# EAGLE library part M20-7820946 (library M20-7820946)
Headers & Wire Housings 9 PIN SIL VERTICAL SOCKET TIN Source: Datasheet <https://cdn.harwin.com/pdfs/M20-782.pdf>
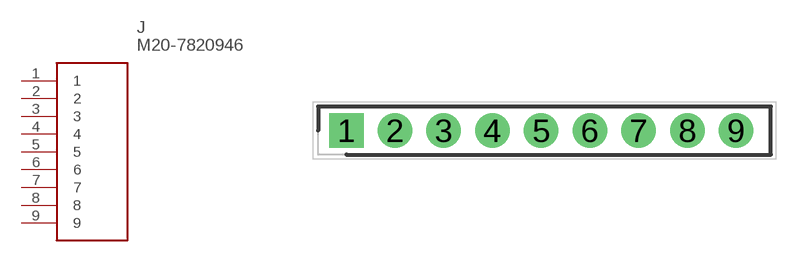
[diagram p0: symbol with the pads of RHDR9W70P0X254_1X9_2326X250X86; footprint RHDR9W70P0X254_1X9_2326X250X86]

Designator prefix J

## M20-7820946 (Description: Headers & Wire Housings 9 PIN SIL VERTICAL SOCKET TIN; Height: 8.65mm; Manufacturer_Name: Harwin; Manufacturer_Part_Number: M20-7820946; Mouser_Part_Number: 855-M20-7820946; Mouser_Price-Stock: https://www.mouser.co.uk/ProductDetail/Harwin/M20-7820946?qs=vF78I%252BjhbY9ojjezFz0qqQ%3D%3D)  [RHDR9W70P0X254_1X9_2326X250X86]
1  1
2  2
3  3
4  4
5  5
6  6
7  7
8  8
9  9

## Footprint RHDR9W70P0X254_1X9_2326X250X86 (pad centres in mm)
M20-7820946
drill 1.2 pad 1.8 square: 1 0,0
drill 1.2 pad 1.8: 2 2.54,0; 3 5.08,0; 4 7.62,0; 5 10.16,0; 6 12.7,0; 7 15.24,0; 8 17.78,0; 9 20.32,0